# Altium footprint library GaN HEMT.PcbLib: 1 footprints
Each footprint in its own frame and in the unit in brackets; x right, y up, seen from the top. Pads: shape width x height; smd on the part's side, far side on the other; paste and mask are expansions set on the pad; w line width, h text height; cw(c..) or ccw(c..) is an arc to the next point about the centre after c.
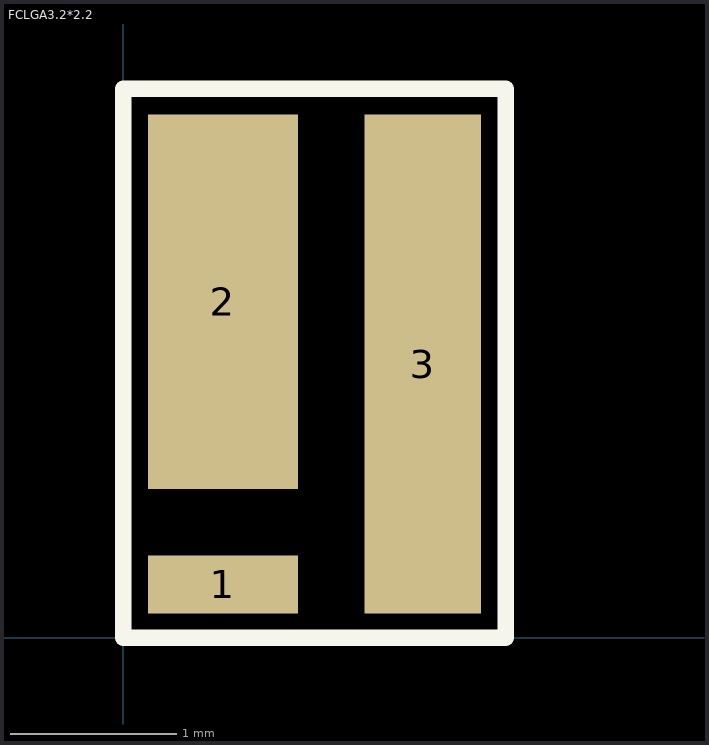
[diagram p0: the footprint, top view; thin cyan lines are the x and y axes]

## FCLGA3.2*2.2 [mm] "INN150LA070A"
pads (3):
  rect 0.9x0.35 smd mask+0.05: 1(0.6,0.32)
  rect 0.9x2.25 smd mask+0.05: 2(0.6,2.02)
  rect 0.7x3 smd mask+0.05: 3(1.8,1.645)
Top Overlay:
  lines w0.1: 0,0 0,3.3 2.3,3.3 2.3,0 0,0
3D body: height 0.8, standoff 0, extent 0,0 2.3,3.3